# EAGLE library part XBEE_XBEE (library scono)
XBee (TM) /XBee-PRO(TM) OEM RF Modules Source: MaxStream, Inc. xbee_productmanual.pdf
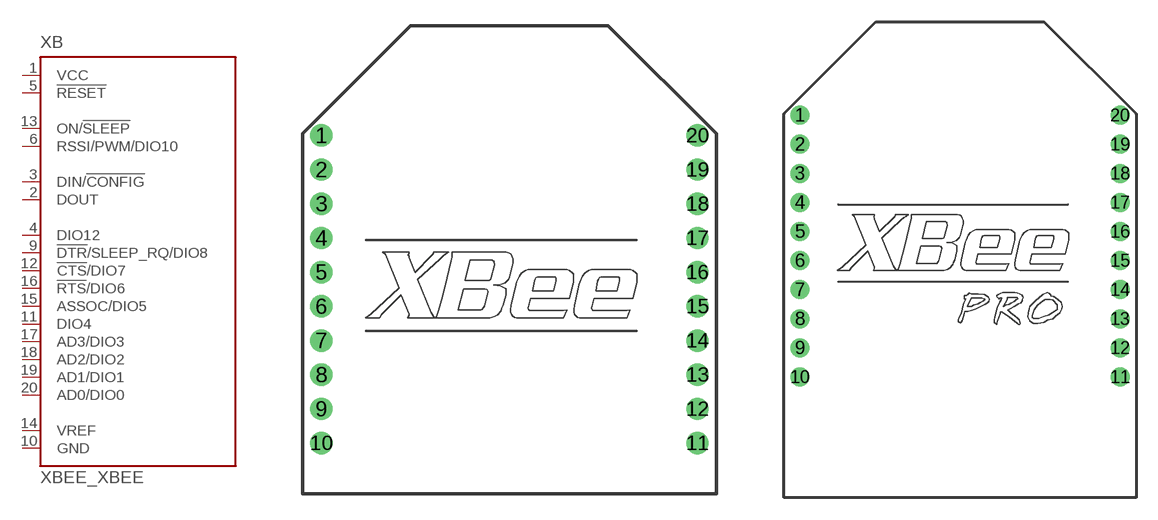
[diagram p15: symbol with the pads of XBEE_XBEE; footprints XBEE_XBEE, XBEE_XBEE-PRO]

Designator prefix XB

## XBEE_XBEE (MPN: XBP24-Z7UIT-004; OC_FARNELL: 1751799; OC_NEWARK: 34R5507)  [XBEE_XBEE]
1  VCC  pwr
2  DOUT  out
3  DIN/!CONFIG  in
4  DIO12
5  !RESET  in
6  RSSI/PWM/DIO10  out
9  !DTR!/SLEEP_RQ/DIO8
10  GND  pwr
11  DIO4
12  !CTS!/DIO7
13  ON/!SLEEP  out
14  VREF  in
15  ASSOC/DIO5
16  !RTS!/DIO6
17  AD3/DIO3
18  AD2/DIO2
19  AD1/DIO1
20  AD0/DIO0

## XBEE_XBEE-PRO (MPN: XBP24-AWI-001; OC_FARNELL: 1337916; OC_NEWARK: 42M2667)  [XBEE_XBEE-PRO]
Pads as for XBEE_XBEE

## XBEE_XBEESMT  [XBEE_SMT]
Pads as for XBEE_XBEE

## Footprint XBEE_XBEE (pad centres in mm)
XBEE Source: http://www.maxstream.net/products/xbee/datasheet_XBee_OEM_RF-Modules.pdf
drill 0.8 pad 1.27: 1 -11,9; 2 -11,7; 3 -11,5; 4 -11,3; 5 -11,1; 6 -11,-1; 7 -11,-3; 8 -11,-5; 9 -11,-7; 10 -11,-9; 11 11,-9; 12 11,-7; 13 11,-5; 14 11,-3; 15 11,-1; 16 11,1; 17 11,3; 18 11,5; 19 11,7; 20 11,9

## Footprint XBEE_XBEE-PRO (pad centres in mm)
XBEE Pro Source: http://www.maxstream.net/products/xbee/datasheet_XBee_OEM_RF-Modules.pdf
drill 0.8 pad 1.27: 1 -11,9; 2 -11,7; 3 -11,5; 4 -11,3; 5 -11,1; 6 -11,-1; 7 -11,-3; 8 -11,-5; 9 -11,-7; 10 -11,-9; 11 11,-9; 12 11,-7; 13 11,-5; 14 11,-3; 15 11,-1; 16 11,1; 17 11,3; 18 11,5; 19 11,7; 20 11,9

## Footprint XBEE_SMT (pad centres in mm)
XBEE Source: http://www.maxstream.net/products/xbee/datasheet_XBee_OEM_RF-Modules.pdf For use with digikey S5751-10-ND headers
smd 2.29 x 0.89: 1 -11.555,8.89; 2 -8.765,6.89; 3 -11.555,4.89; 4 -8.765,2.89; 5 -11.555,0.89; 6 -8.765,-1.11; 7 -11.555,-3.11; 8 -8.765,-5.11; 9 -11.555,-7.11; 10 -8.765,-9.11; 11 13.235,-9.11; 12 10.445,-7.11; 13 13.235,-5.11; 14 10.445,-3.11; 15 13.235,-1.11; 16 10.445,0.89; 17 13.235,2.89; 18 10.445,4.89; 19 13.235,6.89; 20 10.445,8.89